# Altium footprint library control_board.PcbLib: 4 footprints
Each footprint in its own frame and in the unit in brackets; x right, y up, seen from the top. Pads: shape width x height; smd on the part's side, far side on the other; paste and mask are expansions set on the pad; w line width, h text height; cw(c..) or ccw(c..) is an arc to the next point about the centre after c.
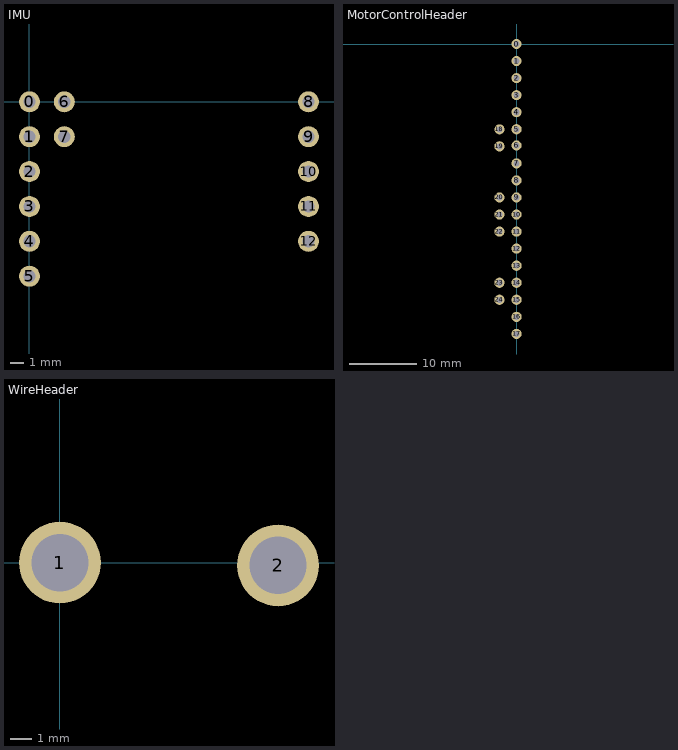
[diagram p0: the footprints below, top view; thin cyan lines are the x and y axes]

## IMU [mil]
pads (13):
  round 60 hole 35.4: 0(0,0) 1(0,-100) 2(0,-200) 3(0,-300) 4(0,-400) 5(0,-500) 6(100,0) 7(100,-100) 8(800,0) 9(800,-100) 10(800,-200) 11(800,-300) 12(800,-400)

## MotorControlHeader [mil]
pads (25):
  round 59.05 hole 35.43: 0(0,0) 1(0,-100) 2(0,-200)
  round 59 hole 35.43: 3(0,-300)
  round 59 hole 35.4: 4(0,-400) 18(-100,-500)
  round 60 hole 35.4: 5(0,-500) 6(0,-595) 7(0,-700) 8(0,-800) 9(0,-900) 10(0,-1000) 11(0,-1100) 12(0,-1200) 13(0,-1300) 14(0,-1400) 15(0,-1500) 16(0,-1600) 17(0,-1700) 19(-100,-600) 20(-100,-900) 21(-100,-1000) 22(-100,-1100) 23(-100,-1400) 24(-100,-1500)

## PCBComponent_1 [mil]

## WireHeader [mil]
pads (2):
  round 150 hole 105: 1(0,0) 2(400,-5)